# Altium footprint library PcbLib1.PcbLib: 1 footprints
Each footprint in its own frame and in the unit in brackets; x right, y up, seen from the top. Pads: shape width x height; smd on the part's side, far side on the other; paste and mask are expansions set on the pad; w line width, h text height; cw(c..) or ccw(c..) is an arc to the next point about the centre after c.
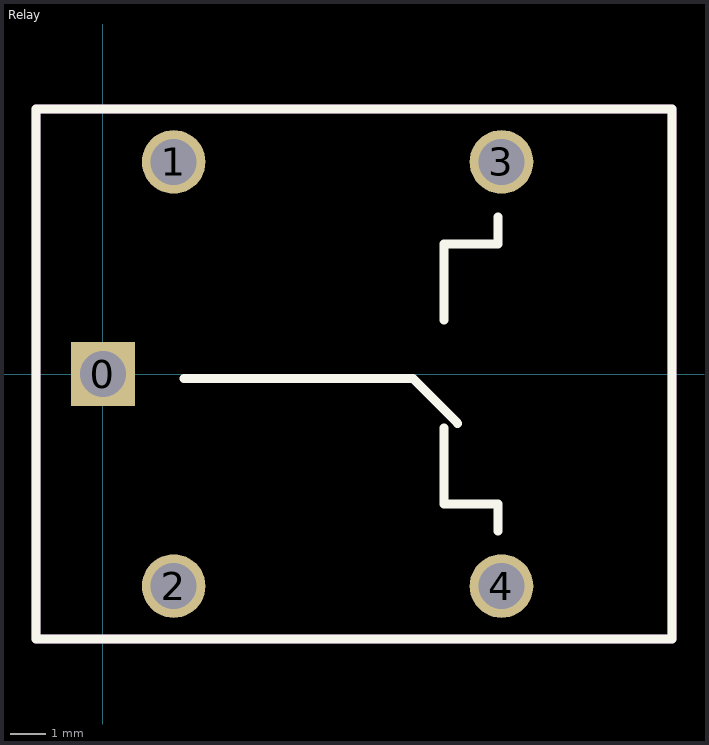
[diagram p0: the footprint, top view; thin cyan lines are the x and y axes]

## Relay [mm]
pads (5):
  rect 1.8x1.8 hole 1.3: 0(0,0)
  round 1.8 hole 1.3: 1(2,6) 2(2,-6) 3(11.271,6) 4(11.271,-6)
Top Overlay:
  lines w0.254: 2.286,-0.127 8.763,-0.127 10.033,-1.397 ; 9.652,-1.524 9.652,-3.683 11.176,-3.683 11.176,-4.445 ; 9.652,1.524 9.652,3.683 11.176,3.683 11.176,4.445 ; -1.9,-7.5 16.1,-7.5 16.1,7.5 -1.9,7.5 -1.9,-7.5
Mechanical 1:
  lines w0.254: -1.9,-7.5 16.1,-7.5 16.1,7.5 -1.9,7.5 -1.9,-7.5